# EAGLE library part MSP430G2001 (library bqevm_additional_ti_ics)
According to: http://www.ti.com/product/msp430g2001
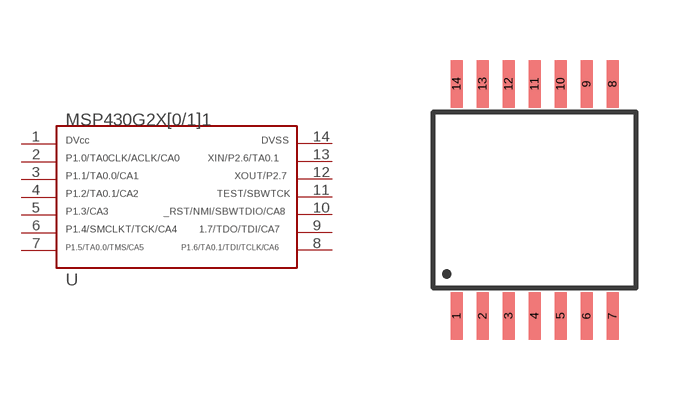
[diagram p5: symbol with the pads of PW14; footprint PW14]

Designator prefix U

## MSP430G2001PW14  [PW14]
1  1
2  2
3  3
4  4
5  5
6  6
7  7
8  8
9  9
10  10
11  11
12  12
13  13
14  14

## Footprint PW14 (pad centres in mm)
According to: http://www.ti.com/litv/pdf/mpds360
smd 0.3 x 1.2: 1 -1.95,-2.9; 2 -1.3,-2.9; 3 -0.65,-2.9; 4 0,-2.9; 5 0.65,-2.9; 6 1.3,-2.9; 7 1.95,-2.9; 8 1.95,2.9; 9 1.3,2.9; 10 0.65,2.9; 11 0,2.9; 12 -0.65,2.9; 13 -1.3,2.9; 14 -1.95,2.9